# Altium footprint library pcblib.PcbLib: 5 footprints
Each footprint in its own frame and in the unit in brackets; x right, y up, seen from the top. Pads: shape width x height; smd on the part's side, far side on the other; paste and mask are expansions set on the pad; w line width, h text height; cw(c..) or ccw(c..) is an arc to the next point about the centre after c.
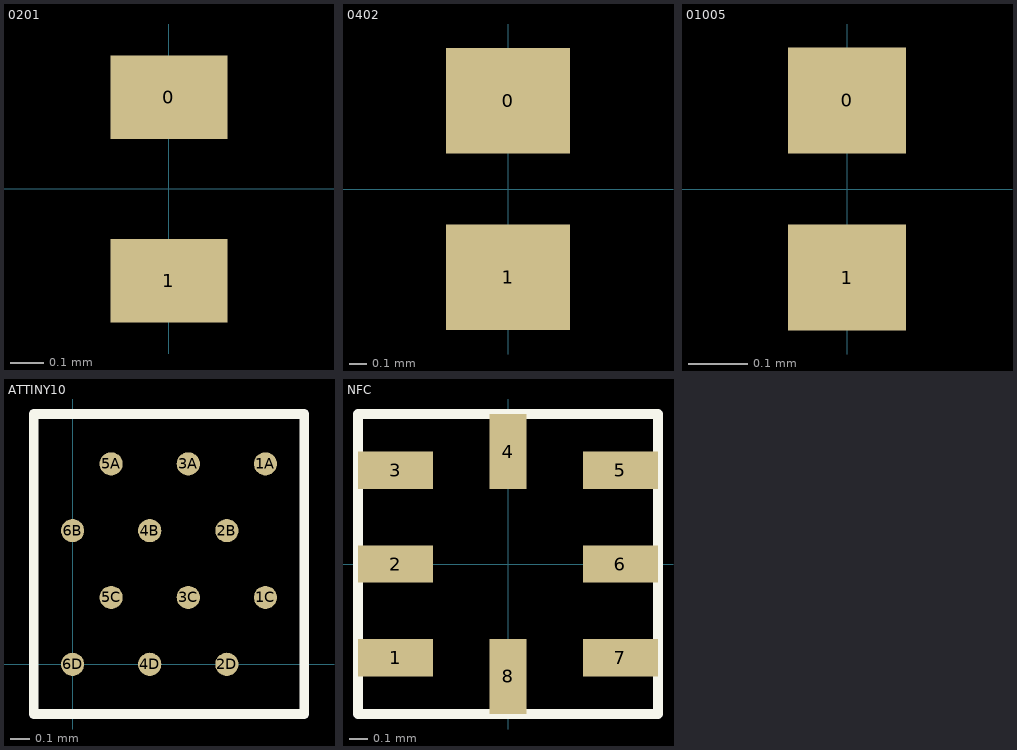
[diagram p0: the footprints below, top view; thin cyan lines are the x and y axes]

## 0201 [mm]
pads (2):
  rect 0.35x0.25 smd: 0(0,0.275) 1(0,-0.275)

## 0402 [mm]
pads (2):
  rect 0.7x0.6 smd: 0(0,0.5) 1(0,-0.5)

## 01005 [mm]
pads (2):
  rect 0.2x0.18 smd: 0(0,0.15) 1(0,-0.15)

## ATTINY10 [mm]
pads (12):
  round 0.12 smd: 1A(1,1.039) 1C(1,0.346) 2B(0.8,0.693) 2D(0.8,0) 3A(0.6,1.039) 3C(0.6,0.346) 4B(0.4,0.693) 4D(0.4,0) 5A(0.2,1.039) 5C(0.2,0.346) 6B(0,0.693) 6D(0,0)
Top Overlay:
  lines w0.051: -0.202,-0.258 1.201,-0.258 1.201,1.298 -0.201,1.298 -0.202,-0.258

## NFC [mm]
pads (8):
  rect 0.4x0.2 smd: 1(-0.6,-0.5) 2(-0.6,0) 3(-0.6,0.5) 5(0.6,0.5) 6(0.6,0) 7(0.6,-0.5)
  rect 0.2x0.4 smd: 4(0,0.6) 8(0,-0.6)
Top Overlay:
  lines w0.051: -0.8,-0.8 -0.8,0.8 0.8,0.8 0.8,-0.8 -0.8,-0.8